# EAGLE library part RF69 (library dawidkulpa_modules)
FM transceiver 868MHZ, SPI, 20dBm
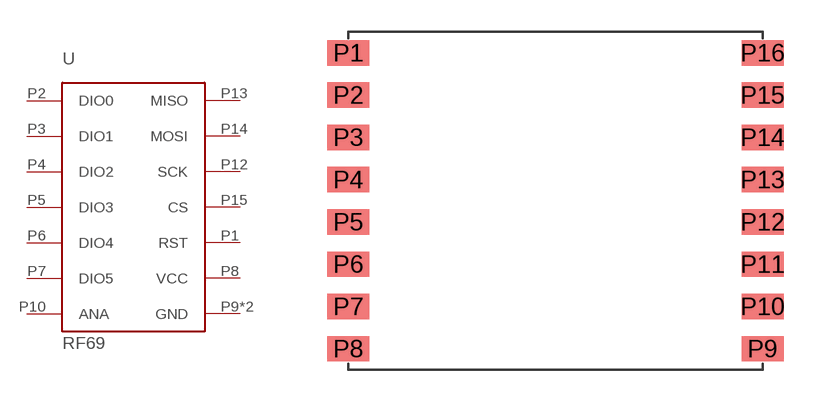
[diagram p0: symbol with the pads of RF69HW; footprint RF69HW]

Designator prefix -

## RF69  [RF69HW]
P1  RST
P2  DIO0
P3  DIO1
P4  DIO2
P5  DIO3
P6  DIO4
P7  DIO5
P8  VCC
P9  GND
P10  ANA
P11  GND
P12  SCK
P13  MISO
P14  MOSI
P15  CS

## Footprint RF69HW (pad centres in mm)
smd 2 x 1.2: P1 -9.8,7; P2 -9.8,5; P3 -9.8,3; P4 -9.8,1; P5 -9.8,-1; P6 -9.8,-3; P7 -9.8,-5; P8 -9.8,-7; P9 9.8,-7; P10 9.8,-5; P11 9.8,-3; P12 9.8,-1; P13 9.8,1; P14 9.8,3; P15 9.8,5; P16 9.8,7